# EAGLE library part TCA9548A (library IC & Transistor)
TCA9548A Low-Voltage 8-Channel I2C Switch with Reset Created by: Wai Weng
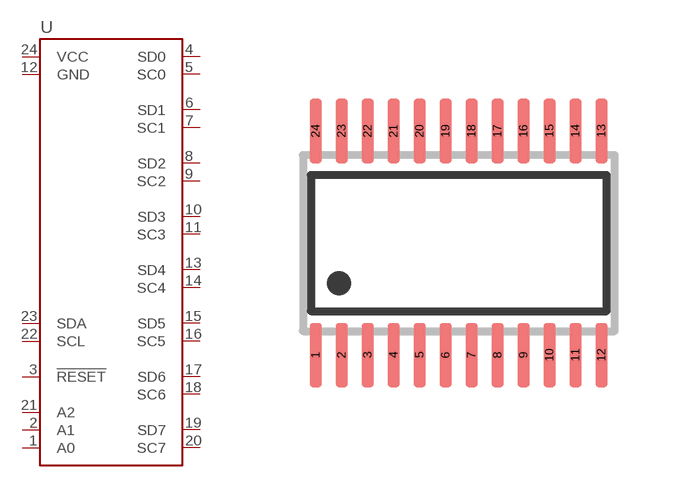
[diagram p91: symbol with the pads of TSSOP-24; footprint TSSOP-24]

Designator prefix U

## TCA9548A (DESC: S 8 Channel I2C Switch TCA9548A TSSOP24; MF: Texas Instruments; MPN: TCA9548APWR)  [TSSOP-24]
1  A0
2  A1
3  !RESET
4  SD0
5  SC0
6  SD1
7  SC1
8  SD2
9  SC2
10  SD3
11  SC3
12  GND
13  SD4
14  SC4
15  SD5
16  SC5
17  SD6
18  SC6
19  SD7
20  SC7
21  A2
22  SCL
23  SDA
24  VCC

## Footprint TSSOP-24 (pad centres in mm)
Thin Shrink Small Outline Package, 24 leads (TSSOP24). Size: 7.8 x 4.4mm Lead Pitch: 0.65mm Created by: Wai Weng
smd 0.3 x 1.6: 1 -3.575,-2.8; 2 -2.925,-2.8; 3 -2.275,-2.8; 4 -1.625,-2.8; 5 -0.975,-2.8; 6 -0.325,-2.8; 7 0.325,-2.8; 8 0.975,-2.8; 9 1.625,-2.8; 10 2.275,-2.8; 11 2.925,-2.8; 12 3.575,-2.8; 13 3.575,2.8; 14 2.925,2.8; 15 2.275,2.8; 16 1.625,2.8; 17 0.975,2.8; 18 0.325,2.8; 19 -0.325,2.8; 20 -0.975,2.8; 21 -1.625,2.8; 22 -2.275,2.8; 23 -2.925,2.8; 24 -3.575,2.8